# Altium footprint library ECD.PcbLib: 19 footprints (part 2 of 2)
Each footprint in its own frame and in the unit in brackets; x right, y up, seen from the top. Pads: shape width x height; smd on the part's side, far side on the other; paste and mask are expansions set on the pad; w line width, h text height; cw(c..) or ccw(c..) is an arc to the next point about the centre after c.
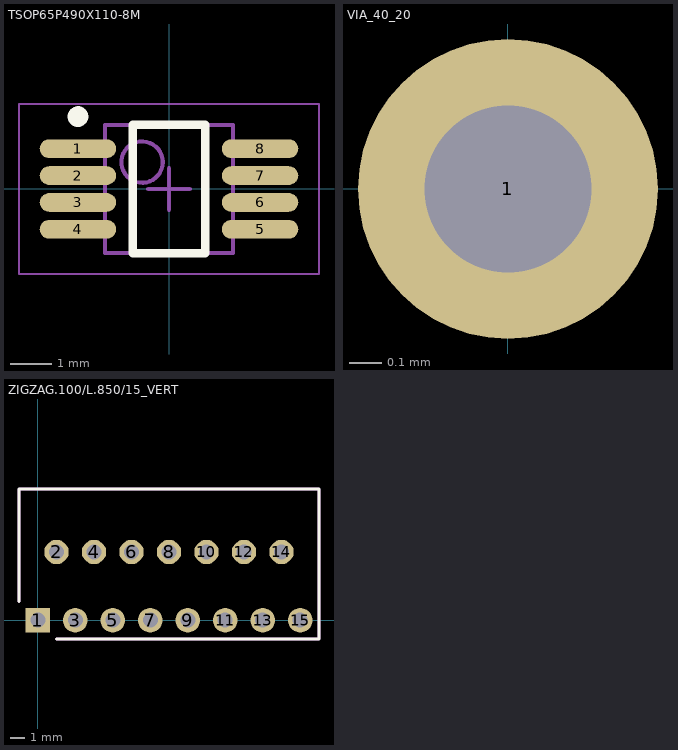
[diagram p1: the footprints below, top view; thin cyan lines are the x and y axes]

## TSOP65P490X110-8M [mm] "TSOP, 8-Leads, Body 3.00x3.00mm, Pitch 0.65mm, IPC Low Density"
height 1.1
pads (8):
  oval 1.85x0.45 smd: 1(-2.2,0.975) 2(-2.2,0.325) 3(-2.2,-0.325) 4(-2.2,-0.975) 5(2.2,-0.975) 6(2.2,-0.325) 7(2.2,0.325) 8(2.2,0.975)
Top Overlay:
  circle w0.25: c-2.2,1.75 r0.125
  lines w0.2: -0.875,-1.55 -0.875,1.55 0.875,1.55 0.875,-1.55 -0.875,-1.55
Mechanical 13:
  circle w0.1: c-0.65,0.65 r0.5
  lines w0.1: -1.55,-1.55 -1.55,1.55 1.55,1.55 1.55,-1.55 -1.55,-1.55
Mechanical 15:
  lines w0.05: -3.625,-2.05 -3.625,2.05 3.625,2.05 3.625,-2.05 -3.625,-2.05
  lines w0.1: -0.5,0 0.5,0 ; 0,-0.5 0,0.5
3D body: height 1.1, standoff 0.15, extent -1.55,-1.55 1.55,1.55

## VIA_40_20 [mil]
pads (1):
  round 36 hole 20: 1(0,0)

## ZIGZAG.100/L.850/15_VERT [mil]
pads (15):
  rect 65x65 / inner rect 85x85 / far side rect 65x65 hole 40: 1(0,0)
  round 65 / inner round 85 / far side round 65 hole 40: 2(50,182) 3(100,0) 4(150,182) 5(200,0) 6(250,182) 7(300,0) 8(350,182) 9(400,0) 10(450,182) 11(500,0) 12(550,182) 13(600,0) 14(650,182) 15(700,0)
Top Overlay:
  lines w8: -50,50 -50,350 750,350 750,-50 50,-50
Mechanical 1:
  lines w8: -50,50 -50,350 750,350 750,-50 50,-50
3D body "User Library-MULTIWAT T15.step": height 888.98, standoff -91.93, extent -35.83,-10 735.83,347.01